# EAGLE library part XC9572/84 (library Xilinx)
XC9572 CPLD in 84 pin PLCC package, through hole socket
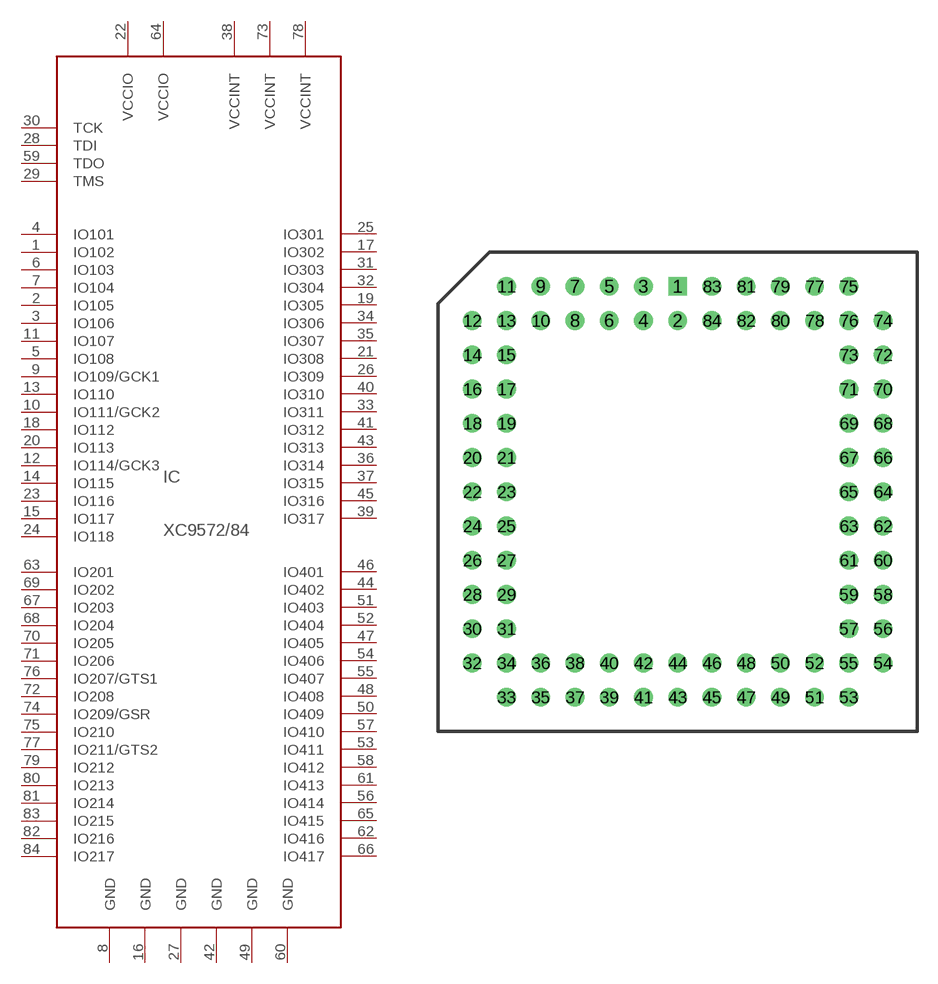
[diagram p1: symbol with the pads of PLCC-84T; footprint PLCC-84T]

Designator prefix IC

## XC9572/84-PC84T  [PLCC-84T]
1  IO102
2  IO105
3  IO106
4  IO101
5  IO108
6  IO103
7  IO104
8  GND  pwr
9  IO109/GCK1
10  IO111/GCK2
11  IO107
12  IO114/GCK3
13  IO110
14  IO115
15  IO117
16  GND  pwr
17  IO302
18  IO112
19  IO305
20  IO113
21  IO308
22  VCCIO  pwr
23  IO116
24  IO118
25  IO301
26  IO309
27  GND  pwr
28  TDI  in
29  TMS  in
30  TCK  in
31  IO303
32  IO304
33  IO311
34  IO306
35  IO307
36  IO314
37  IO315
38  VCCINT  pwr
39  IO317
40  IO310
41  IO312
42  GND  pwr
43  IO313
44  IO402
45  IO316
46  IO401
47  IO405
48  IO408
49  GND  pwr
50  IO409
51  IO403
52  IO404
53  IO411
54  IO406
55  IO407
56  IO414
57  IO410
58  IO412
59  TDO  out
60  GND  pwr
61  IO413
62  IO416
63  IO201
64  VCCIO  pwr
65  IO415
66  IO417
67  IO203
68  IO204
69  IO202
70  IO205
71  IO206
72  IO208
73  VCCINT  pwr
74  IO209/GSR
75  IO210
76  IO207/GTS1
77  IO211/GTS2
78  VCCINT  pwr
79  IO212
80  IO213
81  IO214
82  IO216
83  IO215
84  IO217

## Footprint PLCC-84T (pad centres in mm)
84 pin PLCC through hole socket
drill 0.889 square: 1 0,15.24
drill 0.889 round: 2 0,12.7; 3 -2.54,15.24; 4 -2.54,12.7; 5 -5.08,15.24; 6 -5.08,12.7; 7 -7.62,15.24; 8 -7.62,12.7; 9 -10.16,15.24; 10 -10.16,12.7; 11 -12.7,15.24; 12 -15.24,12.7; 13 -12.7,12.7; 14 -15.24,10.16; 15 -12.7,10.16; 16 -15.24,7.62; 17 -12.7,7.62; 18 -15.24,5.08; 19 -12.7,5.08; 20 -15.24,2.54; 21 -12.7,2.54; 22 -15.24,0; 23 -12.7,0; 24 -15.24,-2.54; 25 -12.7,-2.54; 26 -15.24,-5.08; 27 -12.7,-5.08; 28 -15.24,-7.62; 29 -12.7,-7.62; 30 -15.24,-10.16; 31 -12.7,-10.16; 32 -15.24,-12.7; 33 -12.7,-15.24; 34 -12.7,-12.7; 35 -10.16,-15.24; 36 -10.16,-12.7; 37 -7.62,-15.24; 38 -7.62,-12.7; 39 -5.08,-15.24; 40 -5.08,-12.7; 41 -2.54,-15.24; 42 -2.54,-12.7; 43 0,-15.24; 44 0,-12.7; 45 2.54,-15.24; 46 2.54,-12.7; 47 5.08,-15.24; 48 5.08,-12.7; 49 7.62,-15.24; 50 7.62,-12.7; 51 10.16,-15.24; 52 10.16,-12.7; 53 12.7,-15.24; 54 15.24,-12.7; 55 12.7,-12.7; 56 15.24,-10.16; 57 12.7,-10.16; 58 15.24,-7.62; 59 12.7,-7.62; 60 15.24,-5.08; 61 12.7,-5.08; 62 15.24,-2.54; 63 12.7,-2.54; 64 15.24,0; 65 12.7,0; 66 15.24,2.54; 67 12.7,2.54; 68 15.24,5.08; 69 12.7,5.08; 70 15.24,7.62; 71 12.7,7.62; 72 15.24,10.16; 73 12.7,10.16; 74 15.24,12.7; 75 12.7,15.24; 76 12.7,12.7; 77 10.16,15.24; 78 10.16,12.7; 79 7.62,15.24; 80 7.62,12.7; 81 5.08,15.24; 82 5.08,12.7; 83 2.54,15.24; 84 2.54,12.7